# Altium schematic symbol library WCAP-ATLL.SchLib: 209 symbols (part 1 of 5)
Pins are listed as number, name and electrical type; pins without a type are passive.

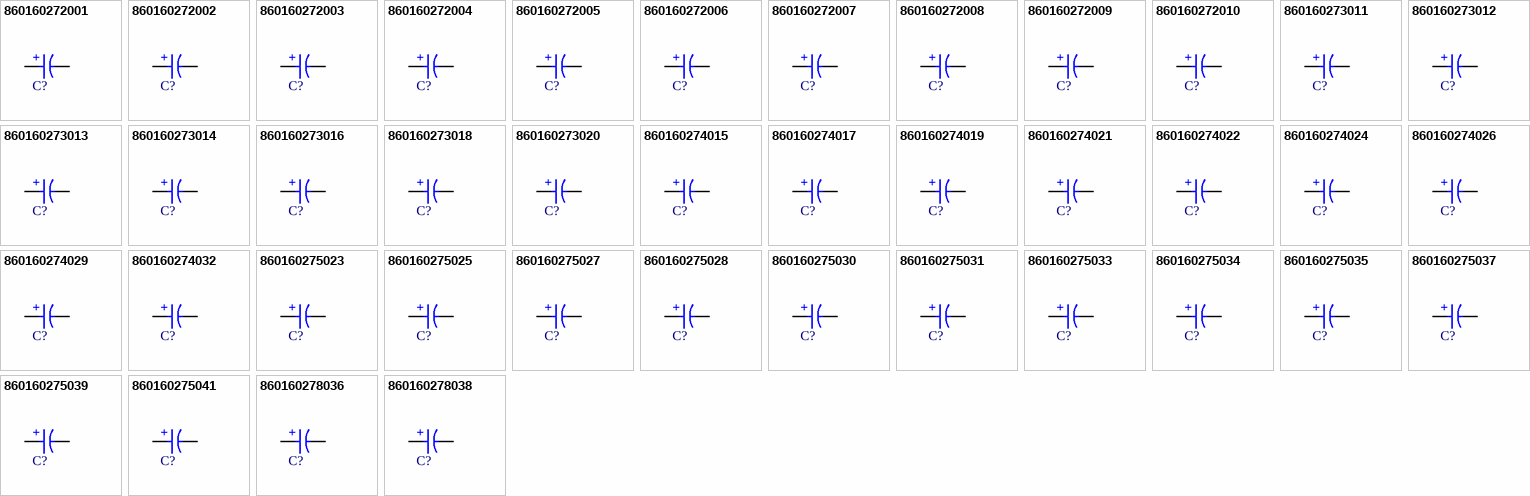
[diagram p0: symbols 860160272001 to 860160278038]

## 860160272001
designator C?, comment 22µF  (value not drawn)
WCAP-ATLL Aluminum Electrolytic Capacitor, Radial, THT, D5 x H11mm, 22µF, 10V; Manufacturer Part Number: 860160272001; Manufacturer: Wurth Elektronik; Capacitance Tolerance: +/-20%; Dissipation Factor: 19%; Endurance: 4000h; Leakage Current: 3µA; Ripple Current: 66mA; Technical Reference: ATEC110220M010DSPA3D000; Category: Aluminum Electrolytic Capacitors; Match Code: WCAP-ATLL; ComponentLink1Description: Website Link; ComponentLink1URL: https://www.we-online.com/redexpert/article/860160272001?ad; ComponentLink2Description: Datasheet Link; ComponentLink2URL: https://www.we-online.com/redexpert/spec/860160272001?ad; Mount: Through Hole; Operating Temperature Max: 105°C; Operating Temperature Min: -55°C; Packaging: Ammo Pack; Height: 11mm; Diameter: 5mm; Capacitance: 22µF; Rated Voltage (DC): 10V
footprint WCAP-ATLL_D5H11
simulation model 860160272001_22uF
pins: 1 P, 2 N
text: +

## 860160272002
designator C?, comment 27µF  (value not drawn)
WCAP-ATLL Aluminum Electrolytic Capacitor, Radial, THT, D5 x H11mm, 27µF, 10V; Manufacturer Part Number: 860160272002; Manufacturer: Wurth Elektronik; Capacitance Tolerance: +/-20%; Dissipation Factor: 19%; Endurance: 4000h; Leakage Current: 3µA; Ripple Current: 72mA; Technical Reference: ATEC110270M010DSPA3D000; Category: Aluminum Electrolytic Capacitors; Match Code: WCAP-ATLL; ComponentLink1Description: Website Link; ComponentLink1URL: https://www.we-online.com/redexpert/article/860160272002?ad; ComponentLink2Description: Datasheet Link; ComponentLink2URL: https://www.we-online.com/redexpert/spec/860160272002?ad; Mount: Through Hole; Operating Temperature Max: 105°C; Operating Temperature Min: -55°C; Packaging: Ammo Pack; Height: 11mm; Diameter: 5mm; Capacitance: 27µF; Rated Voltage (DC): 10V
footprint WCAP-ATLL_D5H11
simulation model 860160272002_27uF
pins: 1 P, 2 N
text: +

## 860160272003
designator C?, comment 33µF  (value not drawn)
WCAP-ATLL Aluminum Electrolytic Capacitor, Radial, THT, D5 x H11mm, 33µF, 10V; Manufacturer Part Number: 860160272003; Manufacturer: Wurth Elektronik; Capacitance Tolerance: +/-20%; Dissipation Factor: 19%; Endurance: 4000h; Leakage Current: 3.3µA; Ripple Current: 72mA; Technical Reference: ATEC110330M010DSPA3D000; Category: Aluminum Electrolytic Capacitors; Match Code: WCAP-ATLL; ComponentLink1Description: Website Link; ComponentLink1URL: https://www.we-online.com/redexpert/article/860160272003?ad; ComponentLink2Description: Datasheet Link; ComponentLink2URL: https://www.we-online.com/redexpert/spec/860160272003?ad; Mount: Through Hole; Operating Temperature Max: 105°C; Operating Temperature Min: -55°C; Packaging: Ammo Pack; Height: 11mm; Diameter: 5mm; Capacitance: 33µF; Rated Voltage (DC): 10V
footprint WCAP-ATLL_D5H11
simulation model 860160272003_33uF
pins: 1 P, 2 N
text: +

## 860160272004
designator C?, comment 39µF  (value not drawn)
WCAP-ATLL Aluminum Electrolytic Capacitor, Radial, THT, D5 x H11mm, 39µF, 10V; Manufacturer Part Number: 860160272004; Manufacturer: Wurth Elektronik; Capacitance Tolerance: +/-20%; Dissipation Factor: 19%; Endurance: 4000h; Leakage Current: 3.9µA; Ripple Current: 120mA; Technical Reference: ATEC110390M010DSPA3D000; Category: Aluminum Electrolytic Capacitors; Match Code: WCAP-ATLL; ComponentLink1Description: Website Link; ComponentLink1URL: https://www.we-online.com/redexpert/article/860160272004?ad; ComponentLink2Description: Datasheet Link; ComponentLink2URL: https://www.we-online.com/redexpert/spec/860160272004?ad; Mount: Through Hole; Operating Temperature Max: 105°C; Operating Temperature Min: -55°C; Packaging: Ammo Pack; Height: 11mm; Diameter: 5mm; Capacitance: 39µF; Rated Voltage (DC): 10V
footprint WCAP-ATLL_D5H11
simulation model 860160272004_39uF
pins: 1 P, 2 N
text: +

## 860160272005
designator C?, comment 47µF  (value not drawn)
WCAP-ATLL Aluminum Electrolytic Capacitor, Radial, THT, D5 x H11mm, 47µF, 10V; Manufacturer Part Number: 860160272005; Manufacturer: Wurth Elektronik; Capacitance Tolerance: +/-20%; Dissipation Factor: 19%; Endurance: 4000h; Leakage Current: 4.7µA; Ripple Current: 132mA; Technical Reference: ATEC110470M010DSPA3D000; Category: Aluminum Electrolytic Capacitors; Match Code: WCAP-ATLL; ComponentLink1Description: Website Link; ComponentLink1URL: https://www.we-online.com/redexpert/article/860160272005?ad; ComponentLink2Description: Datasheet Link; ComponentLink2URL: https://www.we-online.com/redexpert/spec/860160272005?ad; Mount: Through Hole; Operating Temperature Max: 105°C; Operating Temperature Min: -55°C; Packaging: Ammo Pack; Height: 11mm; Diameter: 5mm; Capacitance: 47µF; Rated Voltage (DC): 10V
footprint WCAP-ATLL_D5H11
simulation model 860160272005_47uF
pins: 1 P, 2 N
text: +

## 860160272006
designator C?, comment 56µF  (value not drawn)
WCAP-ATLL Aluminum Electrolytic Capacitor, Radial, THT, D5 x H11mm, 56µF, 10V; Manufacturer Part Number: 860160272006; Manufacturer: Wurth Elektronik; Capacitance Tolerance: +/-20%; Dissipation Factor: 19%; Endurance: 4000h; Leakage Current: 5.6µA; Ripple Current: 144mA; Technical Reference: ATEC110560M010DSPA3D000; Category: Aluminum Electrolytic Capacitors; Match Code: WCAP-ATLL; ComponentLink1Description: Website Link; ComponentLink1URL: https://www.we-online.com/redexpert/article/860160272006?ad; ComponentLink2Description: Datasheet Link; ComponentLink2URL: https://www.we-online.com/redexpert/spec/860160272006?ad; Mount: Through Hole; Operating Temperature Max: 105°C; Operating Temperature Min: -55°C; Packaging: Ammo Pack; Height: 11mm; Diameter: 5mm; Capacitance: 56µF; Rated Voltage (DC): 10V
footprint WCAP-ATLL_D5H11
simulation model 860160272006_56uF
pins: 1 P, 2 N
text: +

## 860160272007
designator C?, comment 68µF  (value not drawn)
WCAP-ATLL Aluminum Electrolytic Capacitor, Radial, THT, D5 x H11mm, 68µF, 10V; Manufacturer Part Number: 860160272007; Manufacturer: Wurth Elektronik; Capacitance Tolerance: +/-20%; Dissipation Factor: 19%; Endurance: 4000h; Leakage Current: 6.8µA; Ripple Current: 162mA; Technical Reference: ATEC110680M010DSPA3D000; Category: Aluminum Electrolytic Capacitors; Match Code: WCAP-ATLL; ComponentLink1Description: Website Link; ComponentLink1URL: https://www.we-online.com/redexpert/article/860160272007?ad; ComponentLink2Description: Datasheet Link; ComponentLink2URL: https://www.we-online.com/redexpert/spec/860160272007?ad; Mount: Through Hole; Operating Temperature Max: 105°C; Operating Temperature Min: -55°C; Packaging: Ammo Pack; Height: 11mm; Diameter: 5mm; Capacitance: 68µF; Rated Voltage (DC): 10V
footprint WCAP-ATLL_D5H11
simulation model 860160272007_68uF
pins: 1 P, 2 N
text: +

## 860160272008
designator C?, comment 82µF  (value not drawn)
WCAP-ATLL Aluminum Electrolytic Capacitor, Radial, THT, D5 x H11mm, 82µF, 10V; Manufacturer Part Number: 860160272008; Manufacturer: Wurth Elektronik; Capacitance Tolerance: +/-20%; Dissipation Factor: 19%; Endurance: 4000h; Leakage Current: 8.2µA; Ripple Current: 192mA; Technical Reference: ATEC110820M010DSPA3D000; Category: Aluminum Electrolytic Capacitors; Match Code: WCAP-ATLL; ComponentLink1Description: Website Link; ComponentLink1URL: https://www.we-online.com/redexpert/article/860160272008?ad; ComponentLink2Description: Datasheet Link; ComponentLink2URL: https://www.we-online.com/redexpert/spec/860160272008?ad; Mount: Through Hole; Operating Temperature Max: 105°C; Operating Temperature Min: -55°C; Packaging: Ammo Pack; Height: 11mm; Diameter: 5mm; Capacitance: 82µF; Rated Voltage (DC): 10V
footprint WCAP-ATLL_D5H11
simulation model 860160272008_82uF
pins: 1 P, 2 N
text: +

## 860160272009
designator C?, comment 100µF  (value not drawn)
WCAP-ATLL Aluminum Electrolytic Capacitor, Radial, THT, D5 x H11mm, 100µF, 10V; Manufacturer Part Number: 860160272009; Manufacturer: Wurth Elektronik; Capacitance Tolerance: +/-20%; Dissipation Factor: 19%; Endurance: 4000h; Leakage Current: 10µA; Ripple Current: 222mA; Technical Reference: ATEC110101M010DSPA3D000; Category: Aluminum Electrolytic Capacitors; Match Code: WCAP-ATLL; ComponentLink1Description: Website Link; ComponentLink1URL: https://www.we-online.com/redexpert/article/860160272009?ad; ComponentLink2Description: Datasheet Link; ComponentLink2URL: https://www.we-online.com/redexpert/spec/860160272009?ad; Mount: Through Hole; Operating Temperature Max: 105°C; Operating Temperature Min: -55°C; Packaging: Ammo Pack; Height: 11mm; Diameter: 5mm; Capacitance: 100µF; Rated Voltage (DC): 10V
footprint WCAP-ATLL_D5H11
simulation model 860160272009_100uF
pins: 1 P, 2 N
text: +

## 860160272010
designator C?, comment 120µF  (value not drawn)
WCAP-ATLL Aluminum Electrolytic Capacitor, Radial, THT, D5 x H11mm, 120µF, 10V; Manufacturer Part Number: 860160272010; Manufacturer: Wurth Elektronik; Capacitance Tolerance: +/-20%; Dissipation Factor: 19%; Endurance: 3000h; Leakage Current: 12µA; Ripple Current: 246mA; Technical Reference: ATEC110121M010DSPA3C000; Category: Aluminum Electrolytic Capacitors; Match Code: WCAP-ATLL; ComponentLink1Description: Website Link; ComponentLink1URL: https://www.we-online.com/redexpert/article/860160272010?ad; ComponentLink2Description: Datasheet Link; ComponentLink2URL: https://www.we-online.com/redexpert/spec/860160272010?ad; Mount: Through Hole; Operating Temperature Max: 105°C; Operating Temperature Min: -55°C; Packaging: Ammo Pack; Height: 11mm; Diameter: 5mm; Capacitance: 120µF; Rated Voltage (DC): 10V
footprint WCAP-ATLL_D5H11
simulation model 860160272010_120uF
pins: 1 P, 2 N
text: +

## 860160273011
designator C?, comment 150µF  (value not drawn)
WCAP-ATLL Aluminum Electrolytic Capacitor, Radial, THT, D6.3 x H11mm, 150µF, 10V; Manufacturer Part Number: 860160273011; Manufacturer: Wurth Elektronik; Capacitance Tolerance: +/-20%; Dissipation Factor: 19%; Endurance: 4000h; Leakage Current: 15µA; Ripple Current: 282mA; Technical Reference: ATED110151M010DSPA4D000; Category: Aluminum Electrolytic Capacitors; Match Code: WCAP-ATLL; ComponentLink1Description: Website Link; ComponentLink1URL: https://www.we-online.com/redexpert/article/860160273011?ad; ComponentLink2Description: Datasheet Link; ComponentLink2URL: https://www.we-online.com/redexpert/spec/860160273011?ad; Mount: Through Hole; Operating Temperature Max: 105°C; Operating Temperature Min: -55°C; Packaging: Ammo Pack; Height: 11mm; Diameter: 6.3mm; Capacitance: 150µF; Rated Voltage (DC): 10V
footprint WCAP-ATLL_D6.3H11
simulation model 860160273011_150uF
pins: 1 P, 2 N
text: +

## 860160273012
designator C?, comment 180µF  (value not drawn)
WCAP-ATLL Aluminum Electrolytic Capacitor, Radial, THT, D6.3 x H11mm, 180µF, 10V; Manufacturer Part Number: 860160273012; Manufacturer: Wurth Elektronik; Capacitance Tolerance: +/-20%; Dissipation Factor: 19%; Endurance: 4000h; Leakage Current: 18µA; Ripple Current: 318mA; Technical Reference: ATED110181M010DSPA4D000; Category: Aluminum Electrolytic Capacitors; Match Code: WCAP-ATLL; ComponentLink1Description: Website Link; ComponentLink1URL: https://www.we-online.com/redexpert/article/860160273012?ad; ComponentLink2Description: Datasheet Link; ComponentLink2URL: https://www.we-online.com/redexpert/spec/860160273012?ad; Mount: Through Hole; Operating Temperature Max: 105°C; Operating Temperature Min: -55°C; Packaging: Ammo Pack; Height: 11mm; Diameter: 6.3mm; Capacitance: 180µF; Rated Voltage (DC): 10V
footprint WCAP-ATLL_D6.3H11
simulation model 860160273012_180uF
pins: 1 P, 2 N
text: +

## 860160273013
designator C?, comment 220µF  (value not drawn)
WCAP-ATLL Aluminum Electrolytic Capacitor, Radial, THT, D6.3 x H11mm, 220µF, 10V; Manufacturer Part Number: 860160273013; Manufacturer: Wurth Elektronik; Capacitance Tolerance: +/-20%; Dissipation Factor: 19%; Endurance: 5000h; Leakage Current: 22µA; Ripple Current: 366mA; Technical Reference: ATED110221M010DSPA4E000; Category: Aluminum Electrolytic Capacitors; Match Code: WCAP-ATLL; ComponentLink1Description: Website Link; ComponentLink1URL: https://www.we-online.com/redexpert/article/860160273013?ad; ComponentLink2Description: Datasheet Link; ComponentLink2URL: https://www.we-online.com/redexpert/spec/860160273013?ad; Mount: Through Hole; Operating Temperature Max: 105°C; Operating Temperature Min: -55°C; Packaging: Ammo Pack; Height: 11mm; Diameter: 6.3mm; Capacitance: 220µF; Rated Voltage (DC): 10V
footprint WCAP-ATLL_D6.3H11
simulation model 860160273013_220uF
pins: 1 P, 2 N
text: +

## 860160273014
designator C?, comment 270µF  (value not drawn)
WCAP-ATLL Aluminum Electrolytic Capacitor, Radial, THT, D6.3 x H15mm, 270µF, 10V; Manufacturer Part Number: 860160273014; Manufacturer: Wurth Elektronik; Capacitance Tolerance: +/-20%; Dissipation Factor: 19%; Endurance: 4000h; Leakage Current: 27µA; Ripple Current: 414mA; Technical Reference: ATED150271M010DSPA4D000; Category: Aluminum Electrolytic Capacitors; Match Code: WCAP-ATLL; ComponentLink1Description: Website Link; ComponentLink1URL: https://www.we-online.com/redexpert/article/860160273014?ad; ComponentLink2Description: Datasheet Link; ComponentLink2URL: https://www.we-online.com/redexpert/spec/860160273014?ad; Mount: Through Hole; Operating Temperature Max: 105°C; Operating Temperature Min: -55°C; Packaging: Ammo Pack; Height: 15mm; Diameter: 6.3mm; Capacitance: 270µF; Rated Voltage (DC): 10V
footprint WCAP-ATLL_D6.3H15
simulation model 860160273014_270uF
pins: 1 P, 2 N
text: +

## 860160273016
designator C?, comment 330µF  (value not drawn)
WCAP-ATLL Aluminum Electrolytic Capacitor, Radial, THT, D6.3 x H15mm, 330µF, 10V; Manufacturer Part Number: 860160273016; Manufacturer: Wurth Elektronik; Capacitance Tolerance: +/-20%; Dissipation Factor: 19%; Endurance: 4000h; Leakage Current: 33µA; Ripple Current: 462mA; Technical Reference: ATED150331M010DSPA4D000; Category: Aluminum Electrolytic Capacitors; Match Code: WCAP-ATLL; ComponentLink1Description: Website Link; ComponentLink1URL: https://www.we-online.com/redexpert/article/860160273016?ad; ComponentLink2Description: Datasheet Link; ComponentLink2URL: https://www.we-online.com/redexpert/spec/860160273016?ad; Mount: Through Hole; Operating Temperature Max: 105°C; Operating Temperature Min: -55°C; Packaging: Ammo Pack; Height: 15mm; Diameter: 6.3mm; Capacitance: 330µF; Rated Voltage (DC): 10V
footprint WCAP-ATLL_D6.3H15
simulation model 860160273016_330uF
pins: 1 P, 2 N
text: +

## 860160273018
designator C?, comment 390µF  (value not drawn)
WCAP-ATLL Aluminum Electrolytic Capacitor, Radial, THT, D6.3 x H15mm, 390µF, 10V; Manufacturer Part Number: 860160273018; Manufacturer: Wurth Elektronik; Capacitance Tolerance: +/-20%; Dissipation Factor: 19%; Endurance: 3000h; Leakage Current: 39µA; Ripple Current: 456mA; Technical Reference: ATED150391M010DSPA4C000; Category: Aluminum Electrolytic Capacitors; Match Code: WCAP-ATLL; ComponentLink1Description: Website Link; ComponentLink1URL: https://www.we-online.com/redexpert/article/860160273018?ad; ComponentLink2Description: Datasheet Link; ComponentLink2URL: https://www.we-online.com/redexpert/spec/860160273018?ad; Mount: Through Hole; Operating Temperature Max: 105°C; Operating Temperature Min: -55°C; Packaging: Ammo Pack; Height: 15mm; Diameter: 6.3mm; Capacitance: 390µF; Rated Voltage (DC): 10V
footprint WCAP-ATLL_D6.3H15
simulation model 860160273018_390uF
pins: 1 P, 2 N
text: +

## 860160273020
designator C?, comment 470µF  (value not drawn)
WCAP-ATLL Aluminum Electrolytic Capacitor, Radial, THT, D6.3 x H15mm, 470µF, 10V; Manufacturer Part Number: 860160273020; Manufacturer: Wurth Elektronik; Capacitance Tolerance: +/-20%; Dissipation Factor: 19%; Endurance: 3000h; Leakage Current: 47µA; Ripple Current: 480mA; Technical Reference: ATED150471M010DSPA4C000; Category: Aluminum Electrolytic Capacitors; Match Code: WCAP-ATLL; ComponentLink1Description: Website Link; ComponentLink1URL: https://www.we-online.com/redexpert/article/860160273020?ad; ComponentLink2Description: Datasheet Link; ComponentLink2URL: https://www.we-online.com/redexpert/spec/860160273020?ad; Mount: Through Hole; Operating Temperature Max: 105°C; Operating Temperature Min: -55°C; Packaging: Ammo Pack; Height: 15mm; Diameter: 6.3mm; Capacitance: 470µF; Rated Voltage (DC): 10V
footprint WCAP-ATLL_D6.3H15
simulation model 860160273020_470uF
pins: 1 P, 2 N
text: +

## 860160274015
designator C?, comment 270µF  (value not drawn)
WCAP-ATLL Aluminum Electrolytic Capacitor, Radial, THT, D8 x H11.5mm, 270µF, 10V; Manufacturer Part Number: 860160274015; Manufacturer: Wurth Elektronik; Capacitance Tolerance: +/-20%; Dissipation Factor: 19%; Endurance: 7000h; Leakage Current: 27µA; Ripple Current: 420mA; Technical Reference: ATEE115271M010DSPA7G000; Category: Aluminum Electrolytic Capacitors; Match Code: WCAP-ATLL; ComponentLink1Description: Website Link; ComponentLink1URL: https://www.we-online.com/redexpert/article/860160274015?ad; ComponentLink2Description: Datasheet Link; ComponentLink2URL: https://www.we-online.com/redexpert/spec/860160274015?ad; Mount: Through Hole; Operating Temperature Max: 105°C; Operating Temperature Min: -55°C; Packaging: Ammo Pack; Height: 11.5mm; Diameter: 8mm; Capacitance: 270µF; Rated Voltage (DC): 10V
footprint WCAP-ATLL_D8H11.5
simulation model 860160274015_270uF
pins: 1 P, 2 N
text: +

## 860160274017
designator C?, comment 330µF  (value not drawn)
WCAP-ATLL Aluminum Electrolytic Capacitor, Radial, THT, D8 x H11.5mm, 330µF, 10V; Manufacturer Part Number: 860160274017; Manufacturer: Wurth Elektronik; Capacitance Tolerance: +/-20%; Dissipation Factor: 19%; Endurance: 7000h; Leakage Current: 33µA; Ripple Current: 492mA; Technical Reference: ATEE115331M010DSPA7G000; Category: Aluminum Electrolytic Capacitors; Match Code: WCAP-ATLL; ComponentLink1Description: Website Link; ComponentLink1URL: https://www.we-online.com/redexpert/article/860160274017?ad; ComponentLink2Description: Datasheet Link; ComponentLink2URL: https://www.we-online.com/redexpert/spec/860160274017?ad; Mount: Through Hole; Operating Temperature Max: 105°C; Operating Temperature Min: -55°C; Packaging: Ammo Pack; Height: 11.5mm; Diameter: 8mm; Capacitance: 330µF; Rated Voltage (DC): 10V
footprint WCAP-ATLL_D8H11.5
simulation model 860160274017_330uF
pins: 1 P, 2 N
text: +

## 860160274019
designator C?, comment 390µF  (value not drawn)
WCAP-ATLL Aluminum Electrolytic Capacitor, Radial, THT, D8 x H11.5mm, 390µF, 10V; Manufacturer Part Number: 860160274019; Manufacturer: Wurth Elektronik; Capacitance Tolerance: +/-20%; Dissipation Factor: 19%; Endurance: 7000h; Leakage Current: 39µA; Ripple Current: 516mA; Technical Reference: ATEE115391M010DSPA7G000; Category: Aluminum Electrolytic Capacitors; Match Code: WCAP-ATLL; ComponentLink1Description: Website Link; ComponentLink1URL: https://www.we-online.com/redexpert/article/860160274019?ad; ComponentLink2Description: Datasheet Link; ComponentLink2URL: https://www.we-online.com/redexpert/spec/860160274019?ad; Mount: Through Hole; Operating Temperature Max: 105°C; Operating Temperature Min: -55°C; Packaging: Ammo Pack; Height: 11.5mm; Diameter: 8mm; Capacitance: 390µF; Rated Voltage (DC): 10V
footprint WCAP-ATLL_D8H11.5
simulation model 860160274019_390uF
pins: 1 P, 2 N
text: +

## 860160274021
designator C?, comment 470µF  (value not drawn)
WCAP-ATLL Aluminum Electrolytic Capacitor, Radial, THT, D8 x H11.5mm, 470µF, 10V; Manufacturer Part Number: 860160274021; Manufacturer: Wurth Elektronik; Capacitance Tolerance: +/-20%; Dissipation Factor: 19%; Endurance: 7000h; Leakage Current: 47µA; Ripple Current: 552mA; Technical Reference: ATEE115471M010DSPA7G000; Category: Aluminum Electrolytic Capacitors; Match Code: WCAP-ATLL; ComponentLink1Description: Website Link; ComponentLink1URL: https://www.we-online.com/redexpert/article/860160274021?ad; ComponentLink2Description: Datasheet Link; ComponentLink2URL: https://www.we-online.com/redexpert/spec/860160274021?ad; Mount: Through Hole; Operating Temperature Max: 105°C; Operating Temperature Min: -55°C; Packaging: Ammo Pack; Height: 11.5mm; Diameter: 8mm; Capacitance: 470µF; Rated Voltage (DC): 10V
footprint WCAP-ATLL_D8H11.5
simulation model 860160274021_470uF
pins: 1 P, 2 N
text: +

## 860160274022
designator C?, comment 560µF  (value not drawn)
WCAP-ATLL Aluminum Electrolytic Capacitor, Radial, THT, D8 x H11.5mm, 560µF, 10V; Manufacturer Part Number: 860160274022; Manufacturer: Wurth Elektronik; Capacitance Tolerance: +/-20%; Dissipation Factor: 19%; Endurance: 4000h; Leakage Current: 56µA; Ripple Current: 588mA; Technical Reference: ATEE115561M010DSPA7D000; Category: Aluminum Electrolytic Capacitors; Match Code: WCAP-ATLL; ComponentLink1Description: Website Link; ComponentLink1URL: https://www.we-online.com/redexpert/article/860160274022?ad; ComponentLink2Description: Datasheet Link; ComponentLink2URL: https://www.we-online.com/redexpert/spec/860160274022?ad; Mount: Through Hole; Operating Temperature Max: 105°C; Operating Temperature Min: -55°C; Packaging: Ammo Pack; Height: 11.5mm; Diameter: 8mm; Capacitance: 560µF; Rated Voltage (DC): 10V
footprint WCAP-ATLL_D8H11.5
simulation model 860160274022_560uF
pins: 1 P, 2 N
text: +

## 860160274024
designator C?, comment 680µF  (value not drawn)
WCAP-ATLL Aluminum Electrolytic Capacitor, Radial, THT, D8 x H16mm, 680µF, 10V; Manufacturer Part Number: 860160274024; Manufacturer: Wurth Elektronik; Capacitance Tolerance: +/-20%; Dissipation Factor: 19%; Endurance: 7000h; Leakage Current: 68µA; Ripple Current: 660mA; Technical Reference: ATEE160681M010DSPA7G000; Category: Aluminum Electrolytic Capacitors; Match Code: WCAP-ATLL; ComponentLink1Description: Website Link; ComponentLink1URL: https://www.we-online.com/redexpert/article/860160274024?ad; ComponentLink2Description: Datasheet Link; ComponentLink2URL: https://www.we-online.com/redexpert/spec/860160274024?ad; Mount: Through Hole; Operating Temperature Max: 105°C; Operating Temperature Min: -55°C; Packaging: Ammo Pack; Height: 16mm; Diameter: 8mm; Capacitance: 680µF; Rated Voltage (DC): 10V
footprint WCAP-ATLL_D8H16
simulation model 860160274024_680uF
pins: 1 P, 2 N
text: +

## 860160274026
designator C?, comment 820µF  (value not drawn)
WCAP-ATLL Aluminum Electrolytic Capacitor, Radial, THT, D8 x H16mm, 820µF, 10V; Manufacturer Part Number: 860160274026; Manufacturer: Wurth Elektronik; Capacitance Tolerance: +/-20%; Dissipation Factor: 19%; Endurance: 4000h; Leakage Current: 82µA; Ripple Current: 732mA; Technical Reference: ATEE160821M010DSPA7D000; Category: Aluminum Electrolytic Capacitors; Match Code: WCAP-ATLL; ComponentLink1Description: Website Link; ComponentLink1URL: https://www.we-online.com/redexpert/article/860160274026?ad; ComponentLink2Description: Datasheet Link; ComponentLink2URL: https://www.we-online.com/redexpert/spec/860160274026?ad; Mount: Through Hole; Operating Temperature Max: 105°C; Operating Temperature Min: -55°C; Packaging: Ammo Pack; Height: 16mm; Diameter: 8mm; Capacitance: 820µF; Rated Voltage (DC): 10V
footprint WCAP-ATLL_D8H16
simulation model 860160274026_820uF
pins: 1 P, 2 N
text: +

## 860160274029
designator C?, comment 1000µF  (value not drawn)
WCAP-ATLL Aluminum Electrolytic Capacitor, Radial, THT, D8 x H16mm, 1000µF, 10V; Manufacturer Part Number: 860160274029; Manufacturer: Wurth Elektronik; Capacitance Tolerance: +/-20%; Dissipation Factor: 19%; Endurance: 4000h; Leakage Current: 100µA; Ripple Current: 1020mA; Technical Reference: ATEE160102M010DSPA7D000; Category: Aluminum Electrolytic Capacitors; Match Code: WCAP-ATLL; ComponentLink1Description: Website Link; ComponentLink1URL: https://www.we-online.com/redexpert/article/860160274029?ad; ComponentLink2Description: Datasheet Link; ComponentLink2URL: https://www.we-online.com/redexpert/spec/860160274029?ad; Mount: Through Hole; Operating Temperature Max: 105°C; Operating Temperature Min: -55°C; Packaging: Ammo Pack; Height: 16mm; Diameter: 8mm; Capacitance: 1000µF; Rated Voltage (DC): 10V
footprint WCAP-ATLL_D8H16
simulation model 860160274029_1mF
pins: 1 P, 2 N
text: +

## 860160274032
designator C?, comment 1200µF  (value not drawn)
WCAP-ATLL Aluminum Electrolytic Capacitor, Radial, THT, D8 x H20mm, 1200µF, 10V; Manufacturer Part Number: 860160274032; Manufacturer: Wurth Elektronik; Capacitance Tolerance: +/-20%; Dissipation Factor: 19%; Endurance: 4000h; Leakage Current: 120µA; Ripple Current: 1248mA; Technical Reference: ATEE200122M010DSPA7D000; Category: Aluminum Electrolytic Capacitors; Match Code: WCAP-ATLL; ComponentLink1Description: Website Link; ComponentLink1URL: https://www.we-online.com/redexpert/article/860160274032?ad; ComponentLink2Description: Datasheet Link; ComponentLink2URL: https://www.we-online.com/redexpert/spec/860160274032?ad; Mount: Through Hole; Operating Temperature Max: 105°C; Operating Temperature Min: -55°C; Packaging: Ammo Pack; Height: 20mm; Diameter: 8mm; Capacitance: 1200µF; Rated Voltage (DC): 10V
footprint WCAP-ATLL_D8H20
simulation model 860160274032_1.2mF
pins: 1 P, 2 N
text: +

## 860160275023
designator C?, comment 560µF  (value not drawn)
WCAP-ATLL Aluminum Electrolytic Capacitor, Radial, THT, D10 x H12.5mm, 560µF, 10V; Manufacturer Part Number: 860160275023; Manufacturer: Wurth Elektronik; Capacitance Tolerance: +/-20%; Dissipation Factor: 19%; Endurance: 7000h; Leakage Current: 56µA; Ripple Current: 636mA; Technical Reference: ATEF125561M010DSPA9G000; Category: Aluminum Electrolytic Capacitors; Match Code: WCAP-ATLL; ComponentLink1Description: Website Link; ComponentLink1URL: https://www.we-online.com/redexpert/article/860160275023?ad; ComponentLink2Description: Datasheet Link; ComponentLink2URL: https://www.we-online.com/redexpert/spec/860160275023?ad; Mount: Through Hole; Operating Temperature Max: 105°C; Operating Temperature Min: -55°C; Packaging: Ammo Pack; Height: 12.5mm; Diameter: 10mm; Capacitance: 560µF; Rated Voltage (DC): 10V
footprint WCAP-ATLL_D10H12.5
simulation model 860160275023_560uF
pins: 1 P, 2 N
text: +

## 860160275025
designator C?, comment 680µF  (value not drawn)
WCAP-ATLL Aluminum Electrolytic Capacitor, Radial, THT, D10 x H12.5mm, 680µF, 10V; Manufacturer Part Number: 860160275025; Manufacturer: Wurth Elektronik; Capacitance Tolerance: +/-20%; Dissipation Factor: 19%; Endurance: 7000h; Leakage Current: 68µA; Ripple Current: 684mA; Technical Reference: ATEF125681M010DSPA9G000; Category: Aluminum Electrolytic Capacitors; Match Code: WCAP-ATLL; ComponentLink1Description: Website Link; ComponentLink1URL: https://www.we-online.com/redexpert/article/860160275025?ad; ComponentLink2Description: Datasheet Link; ComponentLink2URL: https://www.we-online.com/redexpert/spec/860160275025?ad; Mount: Through Hole; Operating Temperature Max: 105°C; Operating Temperature Min: -55°C; Packaging: Ammo Pack; Height: 12.5mm; Diameter: 10mm; Capacitance: 680µF; Rated Voltage (DC): 10V
footprint WCAP-ATLL_D10H12.5
simulation model 860160275025_680uF
pins: 1 P, 2 N
text: +

## 860160275027
designator C?, comment 820µF  (value not drawn)
WCAP-ATLL Aluminum Electrolytic Capacitor, Radial, THT, D10 x H12.5mm, 820µF, 10V; Manufacturer Part Number: 860160275027; Manufacturer: Wurth Elektronik; Capacitance Tolerance: +/-20%; Dissipation Factor: 19%; Endurance: 6000h; Leakage Current: 82µA; Ripple Current: 876mA; Technical Reference: ATEF125821M010DSPA9F000; Category: Aluminum Electrolytic Capacitors; Match Code: WCAP-ATLL; ComponentLink1Description: Website Link; ComponentLink1URL: https://www.we-online.com/redexpert/article/860160275027?ad; ComponentLink2Description: Datasheet Link; ComponentLink2URL: https://www.we-online.com/redexpert/spec/860160275027?ad; Mount: Through Hole; Operating Temperature Max: 105°C; Operating Temperature Min: -55°C; Packaging: Ammo Pack; Height: 12.5mm; Diameter: 10mm; Capacitance: 820µF; Rated Voltage (DC): 10V
footprint WCAP-ATLL_D10H12.5
simulation model 860160275027_820uF
pins: 1 P, 2 N
text: +

## 860160275028
designator C?, comment 820µF  (value not drawn)
WCAP-ATLL Aluminum Electrolytic Capacitor, Radial, THT, D10 x H16mm, 820µF, 10V; Manufacturer Part Number: 860160275028; Manufacturer: Wurth Elektronik; Capacitance Tolerance: +/-20%; Dissipation Factor: 19%; Endurance: 7000h; Leakage Current: 82µA; Ripple Current: 936mA; Technical Reference: ATEF160821M010DSPAAG000; Category: Aluminum Electrolytic Capacitors; Match Code: WCAP-ATLL; ComponentLink1Description: Website Link; ComponentLink1URL: https://www.we-online.com/redexpert/article/860160275028?ad; ComponentLink2Description: Datasheet Link; ComponentLink2URL: https://www.we-online.com/redexpert/spec/860160275028?ad; Mount: Through Hole; Operating Temperature Max: 105°C; Operating Temperature Min: -55°C; Packaging: Ammo Pack; Height: 16mm; Diameter: 10mm; Capacitance: 820µF; Rated Voltage (DC): 10V
footprint WCAP-ATLL_D10H16
simulation model 860160275028_820uF
pins: 1 P, 2 N
text: +

## 860160275030
designator C?, comment 1000µF  (value not drawn)
WCAP-ATLL Aluminum Electrolytic Capacitor, Radial, THT, D10 x H12.5mm, 1000µF, 10V; Manufacturer Part Number: 860160275030; Manufacturer: Wurth Elektronik; Capacitance Tolerance: +/-20%; Dissipation Factor: 19%; Endurance: 6000h; Leakage Current: 100µA; Ripple Current: 1032mA; Technical Reference: ATEF125102M010DSPA9F000; Category: Aluminum Electrolytic Capacitors; Match Code: WCAP-ATLL; ComponentLink1Description: Website Link; ComponentLink1URL: https://www.we-online.com/redexpert/article/860160275030?ad; ComponentLink2Description: Datasheet Link; ComponentLink2URL: https://www.we-online.com/redexpert/spec/860160275030?ad; Mount: Through Hole; Operating Temperature Max: 105°C; Operating Temperature Min: -55°C; Packaging: Ammo Pack; Height: 12.5mm; Diameter: 10mm; Capacitance: 1000µF; Rated Voltage (DC): 10V
footprint WCAP-ATLL_D10H12.5
simulation model 860160275030_1mF
pins: 1 P, 2 N
text: +

## 860160275031
designator C?, comment 1000µF  (value not drawn)
WCAP-ATLL Aluminum Electrolytic Capacitor, Radial, THT, D10 x H16mm, 1000µF, 10V; Manufacturer Part Number: 860160275031; Manufacturer: Wurth Elektronik; Capacitance Tolerance: +/-20%; Dissipation Factor: 19%; Endurance: 7000h; Leakage Current: 100µA; Ripple Current: 1140mA; Technical Reference: ATEF160102M010DSPAAG000; Category: Aluminum Electrolytic Capacitors; Match Code: WCAP-ATLL; ComponentLink1Description: Website Link; ComponentLink1URL: https://www.we-online.com/redexpert/article/860160275031?ad; ComponentLink2Description: Datasheet Link; ComponentLink2URL: https://www.we-online.com/redexpert/spec/860160275031?ad; Mount: Through Hole; Operating Temperature Max: 105°C; Operating Temperature Min: -55°C; Packaging: Ammo Pack; Height: 16mm; Diameter: 10mm; Capacitance: 1000µF; Rated Voltage (DC): 10V
footprint WCAP-ATLL_D10H16
simulation model 860160275031_1mF
pins: 1 P, 2 N
text: +

## 860160275033
designator C?, comment 1200µF  (value not drawn)
WCAP-ATLL Aluminum Electrolytic Capacitor, Radial, THT, D10 x H16mm, 1200µF, 10V; Manufacturer Part Number: 860160275033; Manufacturer: Wurth Elektronik; Capacitance Tolerance: +/-20%; Dissipation Factor: 19%; Endurance: 6000h; Leakage Current: 120µA; Ripple Current: 1272mA; Technical Reference: ATEF160122M010DSPAAF000; Category: Aluminum Electrolytic Capacitors; Match Code: WCAP-ATLL; ComponentLink1Description: Website Link; ComponentLink1URL: https://www.we-online.com/redexpert/article/860160275033?ad; ComponentLink2Description: Datasheet Link; ComponentLink2URL: https://www.we-online.com/redexpert/spec/860160275033?ad; Mount: Through Hole; Operating Temperature Max: 105°C; Operating Temperature Min: -55°C; Packaging: Ammo Pack; Height: 16mm; Diameter: 10mm; Capacitance: 1200µF; Rated Voltage (DC): 10V
footprint WCAP-ATLL_D10H16
simulation model 860160275033_1.2mF
pins: 1 P, 2 N
text: +

## 860160275034
designator C?, comment 1500µF  (value not drawn)
WCAP-ATLL Aluminum Electrolytic Capacitor, Radial, THT, D10 x H20mm, 1500µF, 10V; Manufacturer Part Number: 860160275034; Manufacturer: Wurth Elektronik; Capacitance Tolerance: +/-20%; Dissipation Factor: 19%; Endurance: 7000h; Leakage Current: 150µA; Ripple Current: 1536mA; Technical Reference: ATEF200152M010DSPAAG000; Category: Aluminum Electrolytic Capacitors; Match Code: WCAP-ATLL; ComponentLink1Description: Website Link; ComponentLink1URL: https://www.we-online.com/redexpert/article/860160275034?ad; ComponentLink2Description: Datasheet Link; ComponentLink2URL: https://www.we-online.com/redexpert/spec/860160275034?ad; Mount: Through Hole; Operating Temperature Max: 105°C; Operating Temperature Min: -55°C; Packaging: Ammo Pack; Height: 20mm; Diameter: 10mm; Capacitance: 1500µF; Rated Voltage (DC): 10V
footprint WCAP-ATLL_D10H20
simulation model 860160275034_1.5mF
pins: 1 P, 2 N
text: +

## 860160275035
designator C?, comment 1800µF  (value not drawn)
WCAP-ATLL Aluminum Electrolytic Capacitor, Radial, THT, D10 x H25mm, 1800µF, 10V; Manufacturer Part Number: 860160275035; Manufacturer: Wurth Elektronik; Capacitance Tolerance: +/-20%; Dissipation Factor: 19%; Endurance: 7000h; Leakage Current: 180µA; Ripple Current: 1650mA; Technical Reference: ATEF250182M010DSPAAG000; Category: Aluminum Electrolytic Capacitors; Match Code: WCAP-ATLL; ComponentLink1Description: Website Link; ComponentLink1URL: https://www.we-online.com/redexpert/article/860160275035?ad; ComponentLink2Description: Datasheet Link; ComponentLink2URL: https://www.we-online.com/redexpert/spec/860160275035?ad; Mount: Through Hole; Operating Temperature Max: 105°C; Operating Temperature Min: -55°C; Packaging: Ammo Pack; Height: 25mm; Diameter: 10mm; Capacitance: 1800µF; Rated Voltage (DC): 10V
footprint WCAP-ATLL_D10H25
simulation model 860160275035_1.8mF
pins: 1 P, 2 N
text: +

## 860160275037
designator C?, comment 2200µF  (value not drawn)
WCAP-ATLL Aluminum Electrolytic Capacitor, Radial, THT, D10 x H25mm, 2200µF, 10V; Manufacturer Part Number: 860160275037; Manufacturer: Wurth Elektronik; Capacitance Tolerance: +/-20%; Dissipation Factor: 19%; Endurance: 6000h; Leakage Current: 220µA; Ripple Current: 1776mA; Technical Reference: ATEF250222M010DSPAAF000; Category: Aluminum Electrolytic Capacitors; Match Code: WCAP-ATLL; ComponentLink1Description: Website Link; ComponentLink1URL: https://www.we-online.com/redexpert/article/860160275037?ad; ComponentLink2Description: Datasheet Link; ComponentLink2URL: https://www.we-online.com/redexpert/spec/860160275037?ad; Mount: Through Hole; Operating Temperature Max: 105°C; Operating Temperature Min: -55°C; Packaging: Ammo Pack; Height: 25mm; Diameter: 10mm; Capacitance: 2200µF; Rated Voltage (DC): 10V
footprint WCAP-ATLL_D10H25
simulation model 860160275037_2.2mF
pins: 1 P, 2 N
text: +

## 860160275039
designator C?, comment 2700µF  (value not drawn)
WCAP-ATLL Aluminum Electrolytic Capacitor, Radial, THT, D10 x H30mm, 2700µF, 10V; Manufacturer Part Number: 860160275039; Manufacturer: Wurth Elektronik; Capacitance Tolerance: +/-20%; Dissipation Factor: 19%; Endurance: 7000h; Leakage Current: 270µA; Ripple Current: 2076mA; Technical Reference: ATEF300272M010DSPAAG000; Category: Aluminum Electrolytic Capacitors; Match Code: WCAP-ATLL; ComponentLink1Description: Website Link; ComponentLink1URL: https://www.we-online.com/redexpert/article/860160275039?ad; ComponentLink2Description: Datasheet Link; ComponentLink2URL: https://www.we-online.com/redexpert/spec/860160275039?ad; Mount: Through Hole; Operating Temperature Max: 105°C; Operating Temperature Min: -55°C; Packaging: Ammo Pack; Height: 30mm; Diameter: 10mm; Capacitance: 2700µF; Rated Voltage (DC): 10V
footprint WCAP-ATLL_D10H30
simulation model 860160275039_2.7mF
pins: 1 P, 2 N
text: +

## 860160275041
designator C?, comment 3300µF  (value not drawn)
WCAP-ATLL Aluminum Electrolytic Capacitor, Radial, THT, D10 x H30mm, 3300µF, 10V; Manufacturer Part Number: 860160275041; Manufacturer: Wurth Elektronik; Capacitance Tolerance: +/-20%; Dissipation Factor: 19%; Endurance: 6000h; Leakage Current: 330µA; Ripple Current: 2232mA; Technical Reference: ATEF300332M010DSPAAF000; Category: Aluminum Electrolytic Capacitors; Match Code: WCAP-ATLL; ComponentLink1Description: Website Link; ComponentLink1URL: https://www.we-online.com/redexpert/article/860160275041?ad; ComponentLink2Description: Datasheet Link; ComponentLink2URL: https://www.we-online.com/redexpert/spec/860160275041?ad; Mount: Through Hole; Operating Temperature Max: 105°C; Operating Temperature Min: -55°C; Packaging: Ammo Pack; Height: 30mm; Diameter: 10mm; Capacitance: 3300µF; Rated Voltage (DC): 10V
footprint WCAP-ATLL_D10H30
simulation model 860160275041_3.3mF
pins: 1 P, 2 N
text: +

## 860160278036
designator C?, comment 1800µF  (value not drawn)
WCAP-ATLL Aluminum Electrolytic Capacitor, Radial, THT, D13 x H20mm, 1800µF, 10V; Manufacturer Part Number: 860160278036; Manufacturer: Wurth Elektronik; Capacitance Tolerance: +/-20%; Dissipation Factor: 19%; Endurance: 10000h; Leakage Current: 180µA; Ripple Current: 1704mA; Technical Reference: ATEI200182M010DSPACK000; Category: Aluminum Electrolytic Capacitors; Match Code: WCAP-ATLL; ComponentLink1Description: Website Link; ComponentLink1URL: https://www.we-online.com/redexpert/article/860160278036?ad; ComponentLink2Description: Datasheet Link; ComponentLink2URL: https://www.we-online.com/redexpert/spec/860160278036?ad; Mount: Through Hole; Operating Temperature Max: 105°C; Operating Temperature Min: -55°C; Packaging: Ammo Pack; Height: 20mm; Diameter: 13mm; Capacitance: 1800µF; Rated Voltage (DC): 10V
footprint WCAP-ATLL_D13H20
simulation model 860160278036_1.8mF
pins: 1 P, 2 N
text: +

## 860160278038
designator C?, comment 2200µF  (value not drawn)
WCAP-ATLL Aluminum Electrolytic Capacitor, Radial, THT, D13 x H20mm, 2200µF, 10V; Manufacturer Part Number: 860160278038; Manufacturer: Wurth Elektronik; Capacitance Tolerance: +/-20%; Dissipation Factor: 19%; Endurance: 10000h; Leakage Current: 220µA; Ripple Current: 1872mA; Technical Reference: ATEI200222M010DSPACK000; Category: Aluminum Electrolytic Capacitors; Match Code: WCAP-ATLL; ComponentLink1Description: Website Link; ComponentLink1URL: https://www.we-online.com/redexpert/article/860160278038?ad; ComponentLink2Description: Datasheet Link; ComponentLink2URL: https://www.we-online.com/redexpert/spec/860160278038?ad; Mount: Through Hole; Operating Temperature Max: 105°C; Operating Temperature Min: -55°C; Packaging: Ammo Pack; Height: 20mm; Diameter: 13mm; Capacitance: 2200µF; Rated Voltage (DC): 10V
footprint WCAP-ATLL_D13H20
simulation model 860160278038_2.2mF
pins: 1 P, 2 N
text: +

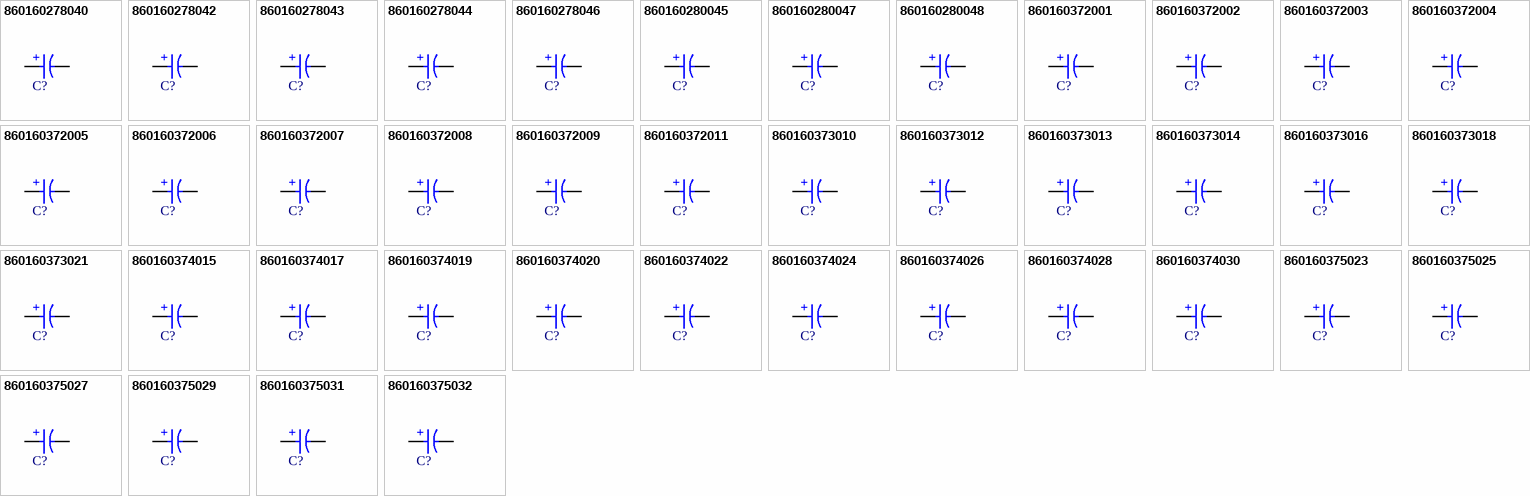
[diagram p1: symbols 860160278040 to 860160375032]

## 860160278040
designator C?, comment 2700µF  (value not drawn)
WCAP-ATLL Aluminum Electrolytic Capacitor, Radial, THT, D13 x H20mm, 2700µF, 10V; Manufacturer Part Number: 860160278040; Manufacturer: Wurth Elektronik; Capacitance Tolerance: +/-20%; Dissipation Factor: 19%; Endurance: 7000h; Leakage Current: 270µA; Ripple Current: 2028mA; Technical Reference: ATEI200272M010DSPACG000; Category: Aluminum Electrolytic Capacitors; Match Code: WCAP-ATLL; ComponentLink1Description: Website Link; ComponentLink1URL: https://www.we-online.com/redexpert/article/860160278040?ad; ComponentLink2Description: Datasheet Link; ComponentLink2URL: https://www.we-online.com/redexpert/spec/860160278040?ad; Mount: Through Hole; Operating Temperature Max: 105°C; Operating Temperature Min: -55°C; Packaging: Ammo Pack; Height: 20mm; Diameter: 13mm; Capacitance: 2700µF; Rated Voltage (DC): 10V
footprint WCAP-ATLL_D13H20
simulation model 860160278040_2.7mF
pins: 1 P, 2 N
text: +

## 860160278042
designator C?, comment 3300µF  (value not drawn)
WCAP-ATLL Aluminum Electrolytic Capacitor, Radial, THT, D13 x H25mm, 3300µF, 10V; Manufacturer Part Number: 860160278042; Manufacturer: Wurth Elektronik; Capacitance Tolerance: +/-20%; Dissipation Factor: 19%; Endurance: 7000h; Leakage Current: 330µA; Ripple Current: 2268mA; Technical Reference: ATEI250332M010DSPACG000; Category: Aluminum Electrolytic Capacitors; Match Code: WCAP-ATLL; ComponentLink1Description: Website Link; ComponentLink1URL: https://www.we-online.com/redexpert/article/860160278042?ad; ComponentLink2Description: Datasheet Link; ComponentLink2URL: https://www.we-online.com/redexpert/spec/860160278042?ad; Mount: Through Hole; Operating Temperature Max: 105°C; Operating Temperature Min: -55°C; Packaging: Ammo Pack; Height: 25mm; Diameter: 13mm; Capacitance: 3300µF; Rated Voltage (DC): 10V
footprint WCAP-ATLL_D13H25
simulation model 860160278042_3.3mF
pins: 1 P, 2 N
text: +

## 860160278043
designator C?, comment 3900µF  (value not drawn)
WCAP-ATLL Aluminum Electrolytic Capacitor, Radial, THT, D13 x H25mm, 3900µF, 10V; Manufacturer Part Number: 860160278043; Manufacturer: Wurth Elektronik; Capacitance Tolerance: +/-20%; Dissipation Factor: 19%; Endurance: 7000h; Leakage Current: 390µA; Ripple Current: 2304mA; Technical Reference: ATEI250392M010DSPACG000; Category: Aluminum Electrolytic Capacitors; Match Code: WCAP-ATLL; ComponentLink1Description: Website Link; ComponentLink1URL: https://www.we-online.com/redexpert/article/860160278043?ad; ComponentLink2Description: Datasheet Link; ComponentLink2URL: https://www.we-online.com/redexpert/spec/860160278043?ad; Mount: Through Hole; Operating Temperature Max: 105°C; Operating Temperature Min: -55°C; Packaging: Ammo Pack; Height: 25mm; Diameter: 13mm; Capacitance: 3900µF; Rated Voltage (DC): 10V
footprint WCAP-ATLL_D13H25
simulation model 860160278043_3.9mF
pins: 1 P, 2 N
text: +

## 860160278044
designator C?, comment 4700µF  (value not drawn)
WCAP-ATLL Aluminum Electrolytic Capacitor, Radial, THT, D13 x H30mm, 4700µF, 10V; Manufacturer Part Number: 860160278044; Manufacturer: Wurth Elektronik; Capacitance Tolerance: +/-20%; Dissipation Factor: 19%; Endurance: 7000h; Leakage Current: 470µA; Ripple Current: 2484mA; Technical Reference: ATEI300472M010DSPACG000; Category: Aluminum Electrolytic Capacitors; Match Code: WCAP-ATLL; ComponentLink1Description: Website Link; ComponentLink1URL: https://www.we-online.com/redexpert/article/860160278044?ad; ComponentLink2Description: Datasheet Link; ComponentLink2URL: https://www.we-online.com/redexpert/spec/860160278044?ad; Mount: Through Hole; Operating Temperature Max: 105°C; Operating Temperature Min: -55°C; Packaging: Ammo Pack; Height: 30mm; Diameter: 13mm; Capacitance: 4700µF; Rated Voltage (DC): 10V
footprint WCAP-ATLL_D13H30
simulation model 860160278044_4.7mF
pins: 1 P, 2 N
text: +

## 860160278046
designator C?, comment 5600µF  (value not drawn)
WCAP-ATLL Aluminum Electrolytic Capacitor, Radial, THT, D13 x H35mm, 5600µF, 10V; Manufacturer Part Number: 860160278046; Manufacturer: Wurth Elektronik; Capacitance Tolerance: +/-20%; Dissipation Factor: 19%; Endurance: 7000h; Leakage Current: 560µA; Ripple Current: 2640mA; Technical Reference: ATEI350562M010DSPABG000; Category: Aluminum Electrolytic Capacitors; Match Code: WCAP-ATLL; ComponentLink1Description: Website Link; ComponentLink1URL: https://www.we-online.com/redexpert/article/860160278046?ad; ComponentLink2Description: Datasheet Link; ComponentLink2URL: https://www.we-online.com/redexpert/spec/860160278046?ad; Mount: Through Hole; Operating Temperature Max: 105°C; Operating Temperature Min: -55°C; Packaging: Ammo Pack; Height: 35mm; Diameter: 13mm; Capacitance: 5600µF; Rated Voltage (DC): 10V
footprint WCAP-ATLL_D13H35
simulation model 860160278046_5.6mF
pins: 1 P, 2 N
text: +

## 860160280045
designator C?, comment 4700µF  (value not drawn)
WCAP-ATLL Aluminum Electrolytic Capacitor, Radial, THT, D16 x H25mm, 4700µF, 10V; Manufacturer Part Number: 860160280045; Manufacturer: Wurth Elektronik; Capacitance Tolerance: +/-20%; Dissipation Factor: 19%; Endurance: 7000h; Leakage Current: 470µA; Ripple Current: 2634mA; Technical Reference: ATEK250472M010DSPAEG000; Category: Aluminum Electrolytic Capacitors; Match Code: WCAP-ATLL; ComponentLink1Description: Website Link; ComponentLink1URL: https://www.we-online.com/redexpert/article/860160280045?ad; ComponentLink2Description: Datasheet Link; ComponentLink2URL: https://www.we-online.com/redexpert/spec/860160280045?ad; Mount: Through Hole; Operating Temperature Max: 105°C; Operating Temperature Min: -55°C; Packaging: Ammo Pack; Height: 25mm; Diameter: 16mm; Capacitance: 4700µF; Rated Voltage (DC): 10V
footprint WCAP-ATLL_D16H25
simulation model 860160280045_4.7mF
pins: 1 P, 2 N
text: +

## 860160280047
designator C?, comment 5600µF  (value not drawn)
WCAP-ATLL Aluminum Electrolytic Capacitor, Radial, THT, D16 x H31.5mm, 5600µF, 10V; Manufacturer Part Number: 860160280047; Manufacturer: Wurth Elektronik; Capacitance Tolerance: +/-20%; Dissipation Factor: 19%; Endurance: 10000h; Leakage Current: 560µA; Ripple Current: 2736mA; Technical Reference: ATEK315562M010DSPADK000; Category: Aluminum Electrolytic Capacitors; Match Code: WCAP-ATLL; ComponentLink1Description: Website Link; ComponentLink1URL: https://www.we-online.com/redexpert/article/860160280047?ad; ComponentLink2Description: Datasheet Link; ComponentLink2URL: https://www.we-online.com/redexpert/spec/860160280047?ad; Mount: Through Hole; Operating Temperature Max: 105°C; Operating Temperature Min: -55°C; Packaging: Ammo Pack; Height: 31.5mm; Diameter: 16mm; Capacitance: 5600µF; Rated Voltage (DC): 10V
footprint WCAP-ATLL_D16H31.5
simulation model 860160280047_5.6mF
pins: 1 P, 2 N
text: +

## 860160280048
designator C?, comment 6800µF  (value not drawn)
WCAP-ATLL Aluminum Electrolytic Capacitor, Radial, THT, D16 x H31.5mm, 6800µF, 10V; Manufacturer Part Number: 860160280048; Manufacturer: Wurth Elektronik; Capacitance Tolerance: +/-20%; Dissipation Factor: 19%; Endurance: 10000h; Leakage Current: 680µA; Ripple Current: 2964mA; Technical Reference: ATEK315682M010DSPADK000; Category: Aluminum Electrolytic Capacitors; Match Code: WCAP-ATLL; ComponentLink1Description: Website Link; ComponentLink1URL: https://www.we-online.com/redexpert/article/860160280048?ad; ComponentLink2Description: Datasheet Link; ComponentLink2URL: https://www.we-online.com/redexpert/spec/860160280048?ad; Mount: Through Hole; Operating Temperature Max: 105°C; Operating Temperature Min: -55°C; Packaging: Ammo Pack; Height: 31.5mm; Diameter: 16mm; Capacitance: 6800µF; Rated Voltage (DC): 10V
footprint WCAP-ATLL_D16H31.5
simulation model 860160280048_6.8mF
pins: 1 P, 2 N
text: +

## 860160372001
designator C?, comment 10µF  (value not drawn)
WCAP-ATLL Aluminum Electrolytic Capacitor, Radial, THT, D5 x H11mm, 10µF, 16V; Manufacturer Part Number: 860160372001; Manufacturer: Wurth Elektronik; Capacitance Tolerance: +/-20%; Dissipation Factor: 16%; Endurance: 4000h; Leakage Current: 3µA; Ripple Current: 36mA; Technical Reference: ATEC110100M016DSPA3D000; Category: Aluminum Electrolytic Capacitors; Match Code: WCAP-ATLL; ComponentLink1Description: Website Link; ComponentLink1URL: https://www.we-online.com/redexpert/article/860160372001?ad; ComponentLink2Description: Datasheet Link; ComponentLink2URL: https://www.we-online.com/redexpert/spec/860160372001?ad; Mount: Through Hole; Operating Temperature Max: 105°C; Operating Temperature Min: -55°C; Packaging: Ammo Pack; Height: 11mm; Diameter: 5mm; Capacitance: 10µF; Rated Voltage (DC): 16V
footprint WCAP-ATLL_D5H11
simulation model 860160372001_10uF
pins: 1 P, 2 N
text: +

## 860160372002
designator C?, comment 15µF  (value not drawn)
WCAP-ATLL Aluminum Electrolytic Capacitor, Radial, THT, D5 x H11mm, 15µF, 16V; Manufacturer Part Number: 860160372002; Manufacturer: Wurth Elektronik; Capacitance Tolerance: +/-20%; Dissipation Factor: 16%; Endurance: 4000h; Leakage Current: 3µA; Ripple Current: 72mA; Technical Reference: ATEC110150M016DSPA3D000; Category: Aluminum Electrolytic Capacitors; Match Code: WCAP-ATLL; ComponentLink1Description: Website Link; ComponentLink1URL: https://www.we-online.com/redexpert/article/860160372002?ad; ComponentLink2Description: Datasheet Link; ComponentLink2URL: https://www.we-online.com/redexpert/spec/860160372002?ad; Mount: Through Hole; Operating Temperature Max: 105°C; Operating Temperature Min: -55°C; Packaging: Ammo Pack; Height: 11mm; Diameter: 5mm; Capacitance: 15µF; Rated Voltage (DC): 16V
footprint WCAP-ATLL_D5H11
simulation model 860160372002_15uF
pins: 1 P, 2 N
text: +

## 860160372003
designator C?, comment 22µF  (value not drawn)
WCAP-ATLL Aluminum Electrolytic Capacitor, Radial, THT, D5 x H11mm, 22µF, 16V; Manufacturer Part Number: 860160372003; Manufacturer: Wurth Elektronik; Capacitance Tolerance: +/-20%; Dissipation Factor: 16%; Endurance: 4000h; Leakage Current: 3.52µA; Ripple Current: 72mA; Technical Reference: ATEC110220M016DSPA3D000; Category: Aluminum Electrolytic Capacitors; Match Code: WCAP-ATLL; ComponentLink1Description: Website Link; ComponentLink1URL: https://www.we-online.com/redexpert/article/860160372003?ad; ComponentLink2Description: Datasheet Link; ComponentLink2URL: https://www.we-online.com/redexpert/spec/860160372003?ad; Mount: Through Hole; Operating Temperature Max: 105°C; Operating Temperature Min: -55°C; Packaging: Ammo Pack; Height: 11mm; Diameter: 5mm; Capacitance: 22µF; Rated Voltage (DC): 16V
footprint WCAP-ATLL_D5H11
simulation model 860160372003_22uF
pins: 1 P, 2 N
text: +

## 860160372004
designator C?, comment 27µF  (value not drawn)
WCAP-ATLL Aluminum Electrolytic Capacitor, Radial, THT, D5 x H11mm, 27µF, 16V; Manufacturer Part Number: 860160372004; Manufacturer: Wurth Elektronik; Capacitance Tolerance: +/-20%; Dissipation Factor: 16%; Endurance: 4000h; Leakage Current: 4.32µA; Ripple Current: 132mA; Technical Reference: ATEC110270M016DSPA3D000; Category: Aluminum Electrolytic Capacitors; Match Code: WCAP-ATLL; ComponentLink1Description: Website Link; ComponentLink1URL: https://www.we-online.com/redexpert/article/860160372004?ad; ComponentLink2Description: Datasheet Link; ComponentLink2URL: https://www.we-online.com/redexpert/spec/860160372004?ad; Mount: Through Hole; Operating Temperature Max: 105°C; Operating Temperature Min: -55°C; Packaging: Ammo Pack; Height: 11mm; Diameter: 5mm; Capacitance: 27µF; Rated Voltage (DC): 16V
footprint WCAP-ATLL_D5H11
simulation model 860160372004_27uF
pins: 1 P, 2 N
text: +